# Altium schematic symbol library TVS diodes ESD9X5.0ST5G.SchLib: 1 symbol
Pins are listed as number, name and electrical type; pins without a type are passive.

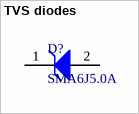
[diagram p0: symbol TVS diodes]

## TVS diodes
designator D?, comment SMA6J5.0A
TVS diodes Little fuse
footprint Diode SOD-123; pin to pad 1>K 2>A
pins: 1 K, 2 A